# Altium footprint library Connectors.PcbLib: 19 footprints (part 2 of 2)
Each footprint in its own frame and in the unit in brackets; x right, y up, seen from the top. Pads: shape width x height; smd on the part's side, far side on the other; paste and mask are expansions set on the pad; w line width, h text height; cw(c..) or ccw(c..) is an arc to the next point about the centre after c.
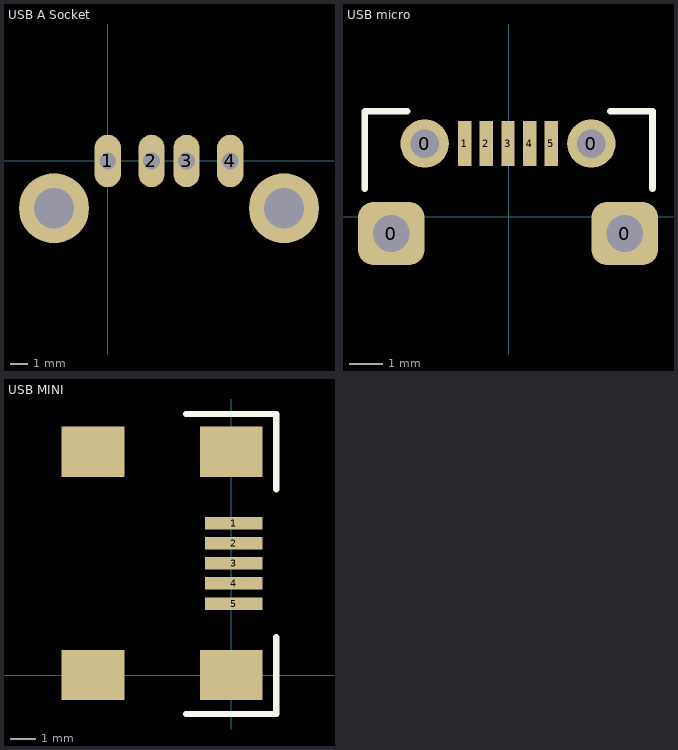
[diagram p1: the footprints below, top view; thin cyan lines are the x and y axes]

## USB A Socket [mm]
pads (6):
  oval 1.5x3 hole 0.95: 1(0,0) 2(2.5,0) 3(4.5,0) 4(7,0)
  round 4 hole 2.3: ""(-3.07,-2.7) ""(10.07,-2.7)
3D body "875200012BLF.stp": height 7.64, standoff -2.84, extent -3.75,-13.05 10.75,0.95

## USB micro [mm]
pads (9):
  rrect50% 2x1.9 hole 1.1: 0(-3.517,-0.5) 0(3.483,-0.5)
  round 1.45 hole 0.85: 0(-2.517,2.2) 0(2.483,2.2)
  rect 0.4x1.35 smd: 1(-1.317,2.2) 2(-0.667,2.2) 3(-0.017,2.2) 4(0.633,2.2) 5(1.283,2.2)
Top Overlay:
  lines w0.2: -4.318,0.85 -4.318,3.175 -3.048,3.175 ; 3.048,3.175 4.318,3.175 4.318,0.85
3D body "User Library-MicroUSB-B_Molex_105017-0001.STEP": height 0.23, standoff -3.08, extent -4.1,-3.034 4.1,2.396

## USB MINI [mm]
pads (9):
  rect 2.3x0.5 smd: 1(0.1,6.05) 2(0.1,5.25) 3(0.1,4.45) 4(0.1,3.65) 5(0.1,2.85)
  rect 2.5x2 smd: ""(-5.5,0) ""(-5.5,8.9) ""(0,0) ""(0,8.9)
Top Overlay:
  lines w0.254: -1.8,-1.55 1.8,-1.55 1.8,1.5 ; -1.8,10.4 1.8,10.4 1.8,7.4
3D body "usb_a-usb_b-m5-smd-c.stp": height 3.93, standoff -1, extent -8.45,-0.35 0.8,9.55